# EAGLE library part LTC6752*?-1 (library LTC6752)
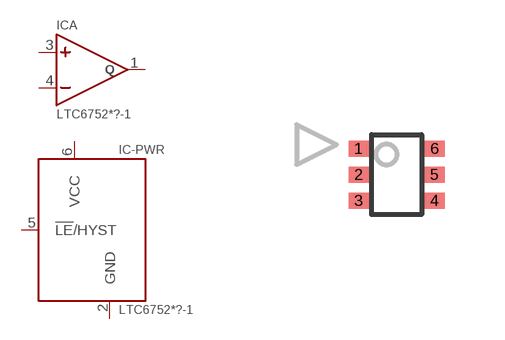
[diagram p0: symbol with the pads of SC70-6; footprint SC70-6]

Designator prefix IC; gates A=LTC6752-AMP-WITHOUT-!Q -PWR=LTC6752-PWR-WITH-LEHYST

## LTC6752HSC6-1 (MARK: LGQK; MF: Texas Instruments; MPN: LTC6752HSC6-1#TRPBF), LTC6752ISC6-1 (MARK: LGQK; MF: Texas Instruments; MPN: LTC6752ISC6-1#TRPBF)  [SC70-6]
1  A:Q  in
2  -PWR:GND  in
3  A:IN+  in
4  A:IN-  in
5  -PWR:!LE!/HYST  in
6  -PWR:VCC  in

## Footprint SC70-6 (pad centres in mm)
smd 0.5 x 0.4: 1 -0.95,0.65; 2 -0.95,0; 3 -0.95,-0.65; 4 0.95,-0.65; 5 0.95,0; 6 0.95,0.65